# Altium footprint library LED(YELLOW, 2V, 20mA, SMD-0603).PcbLib: 1 footprints
Each footprint in its own frame and in the unit in brackets; x right, y up, seen from the top. Pads: shape width x height; smd on the part's side, far side on the other; paste and mask are expansions set on the pad; w line width, h text height; cw(c..) or ccw(c..) is an arc to the next point about the centre after c.
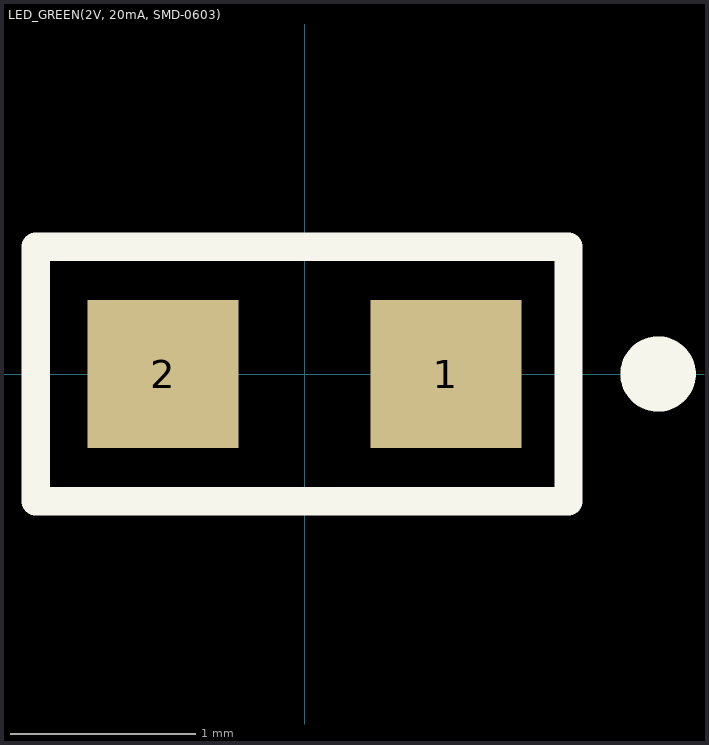
[diagram p0: the footprint, top view; thin cyan lines are the x and y axes]

## LED_GREEN(2V, 20mA, SMD-0603) [mil]
pads (2):
  rect 32x31.5 smd: 1(30,0) 2(-30,0)
Top Overlay:
  circle w10: c75,0 r3
  lines w6: -57,-27 56,-27 56,27 -57,27 -57,-27
3D body "STP_150060xS75000%2B%28rev1%29.stp": height 27.56, standoff 0, extent -31.5,-15.75 31.5,15.75